# Altium footprint library discrete.PCBLIB: 6 footprints
Each footprint in its own frame and in the unit in brackets; x right, y up, seen from the top. Pads: shape width x height; smd on the part's side, far side on the other; paste and mask are expansions set on the pad; w line width, h text height; cw(c..) or ccw(c..) is an arc to the next point about the centre after c.
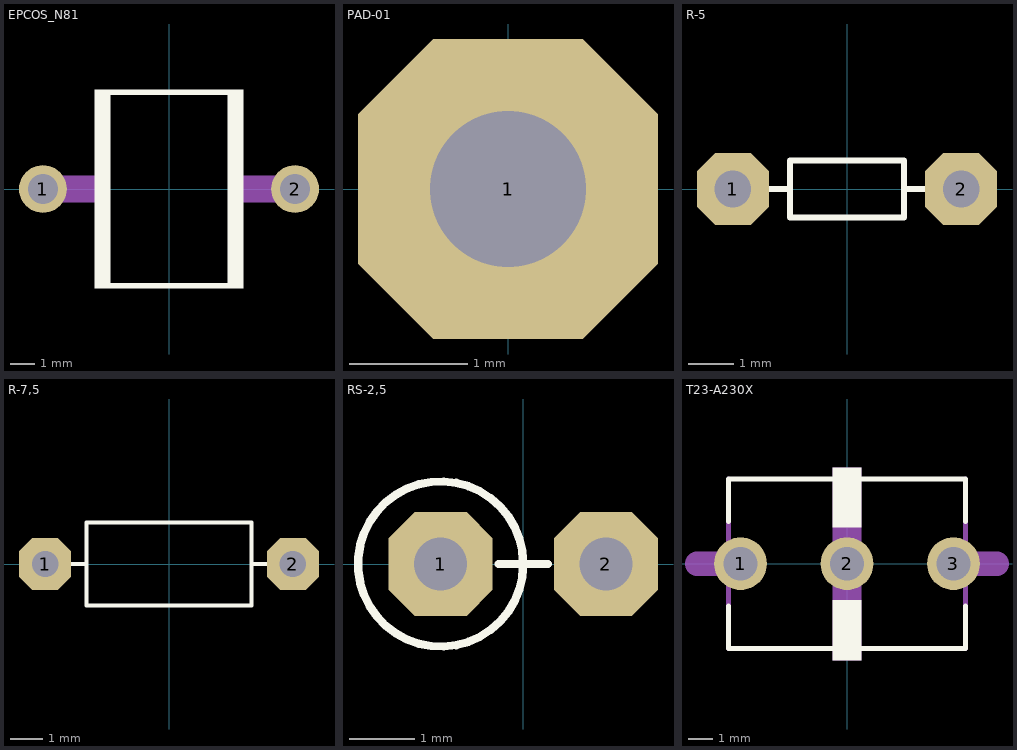
[diagram p0: the footprints below, top view; thin cyan lines are the x and y axes]

## EPCOS_N81 [mil]
pads (2):
  round 76 hole 47.24: 1(-200,0) 2(200,0)
Top Overlay:
  rectangle: -118.11,-157.48 -92.52,157.48
  rectangle: 92.52,-157.48 118.11,157.48
  lines w8: -114.17,-153.54 114.17,-153.54 ; -114.17,153.54 114.17,153.54
Mechanical 16:
  circle w0: c-198.82,0 r21.65
  circle w0: c198.82,0 r21.65
  rectangle: -198.82,-21.65 -110.24,21.65
  region: 198.82,21.65 110.24,21.65 110.24,-21.65 198.82,-21.65

## PAD-01 [mil]
pads (1):
  oct 100x100 hole 52: 1(0,0)
Mechanical 16:
  circle w30: c0,0 r35

## R-5 [mil]
pads (2):
  oct 63x63 hole 32: 1(-100,0) 2(100,0)
Top Overlay:
  lines w5: -70,0 -50,0 ; 70,0 50,0 ; -50,0 -50,25 50,25 50,0 ; -50,0 -50,-25 50,-25 50,0

## R-7,5 [mil]
pads (2):
  oct 63x63 hole 32: 1(-150,0) 2(150,0)
Top Overlay:
  lines w5: -120,0 -100,0 ; 120,0 100,0 ; -100,0 -100,50 100,50 100,0 ; -100,0 -100,-50 100,-50 100,0

## RS-2,5 [mil]
pads (2):
  oct 63x63 hole 32: 1(-50,0) 2(50,0)
Top Overlay:
  circle w5: c-50,0 r50
  lines w5: -15,0 15,0

## T23-A230X [mil]
pads (3):
  round 86 hole 55.12: 1(-173.23,0) 2(0,0) 3(173.23,0)
Top Overlay:
  rectangle: -23.62,-157.48 23.62,-59.06
  rectangle: -23.62,59.06 23.62,156.5
  lines w8: -192.91,-68.9 -192.91,-137.8 192.91,-137.8 192.91,-68.9 ; -192.91,68.9 -192.91,137.8 192.91,137.8 192.91,68.9
Mechanical 16:
  rectangle: -23.62,-157.48 23.62,156.5
  lines w8: -192.91,-137.8 -192.91,137.8 ; 192.91,-137.8 192.91,137.8
  lines w39.37: -244.09,0 -173.23,0 ; 173.23,0 244.09,0